# Altium footprint library BM08B-GHS-TBT(LF)(SN)(N).PcbLib: 1 footprints
Each footprint in its own frame and in the unit in brackets; x right, y up, seen from the top. Pads: shape width x height; smd on the part's side, far side on the other; paste and mask are expansions set on the pad; w line width, h text height; cw(c..) or ccw(c..) is an arc to the next point about the centre after c.
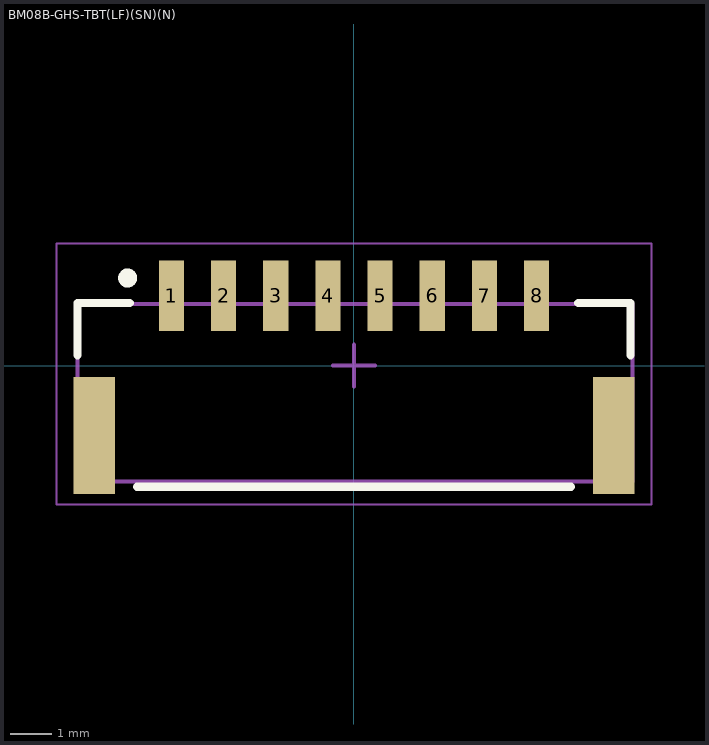
[diagram p0: the footprint, top view; thin cyan lines are the x and y axes]

## BM08B-GHS-TBT(LF)(SN)(N) [mm]
pads (10):
  rect 0.6x1.7 smd: 1(-4.375,1.675) 2(-3.125,1.675) 3(-1.875,1.675) 4(-0.625,1.675) 5(0.625,1.675) 6(1.875,1.675) 7(3.125,1.675) 8(4.375,1.675)
  rect 1x2.8 smd: ""(-6.225,-1.675) ""(6.225,-1.675)
Top Overlay:
  circle w0.254: c-5.425,2.1 r0.1
  lines w0.2: -6.625,0.25 -6.625,1.5 -5.375,1.5 ; -5.2,-2.9 5.2,-2.9 ; 5.375,1.5 6.625,1.5 6.625,0.25
Mechanical 1:
  lines w0.1: -6.625,-2.775 6.675,-2.775 6.675,1.475 -6.625,1.475 -6.625,-2.775
  text ".Designator" at -3.499,-1.058 h0.65
Mechanical 2:
  lines w0.05: -7.125,-3.325 7.125,-3.325 7.125,2.925 -7.125,2.925 -7.125,-3.325
  lines w0.1: -0.5,0 0.5,0 ; 0,-0.5 0,0.5
3D body "BM08B-GHS-TBT.STEP": height 4.18, standoff -0.03, extent -6.625,-2.775 6.625,2.175